# Altium schematic symbol library SRN4018-470M.Schlib: 1 symbol
Pins are listed as number, name and electrical type; pins without a type are passive.

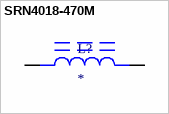
[diagram p0: symbol SRN4018-470M]

## SRN4018-470M
designator L?
pins: 1, 2